# Altium footprint library XTAL.PcbLib: 1 footprints
Each footprint in its own frame and in the unit in brackets; x right, y up, seen from the top. Pads: shape width x height; smd on the part's side, far side on the other; paste and mask are expansions set on the pad; w line width, h text height; cw(c..) or ccw(c..) is an arc to the next point about the centre after c.
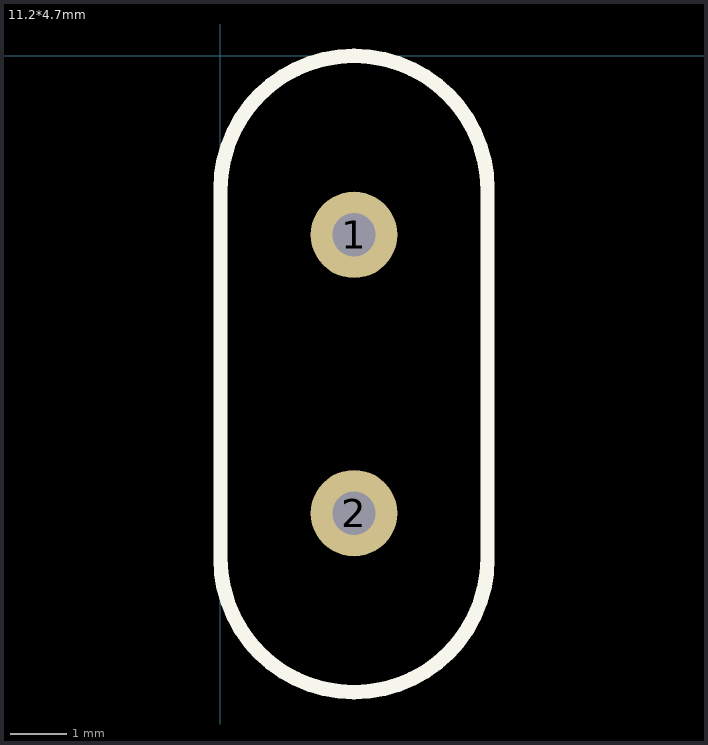
[diagram p0: the footprint, top view; thin cyan lines are the x and y axes]

## 11.2*4.7mm [mil]
pads (2):
  round 60 hole 30: 1(92.52,-124.02) 2(92.52,-316.93)
Top Overlay:
  lines w10: 0,-348.43 ccw(c92.52,-348.43) 185.04,-348.43 185.04,-92.52 ccw(c92.52,-92.52) 0,-92.52 0,-348.43